# Altium footprint library Philips Footprints.PcbLib: 101 footprints (part 3 of 7)
Each footprint in its own frame and in the unit in brackets; x right, y up, seen from the top. Pads: shape width x height; smd on the part's side, far side on the other; paste and mask are expansions set on the pad; w line width, h text height; cw(c..) or ccw(c..) is an arc to the next point about the centre after c.
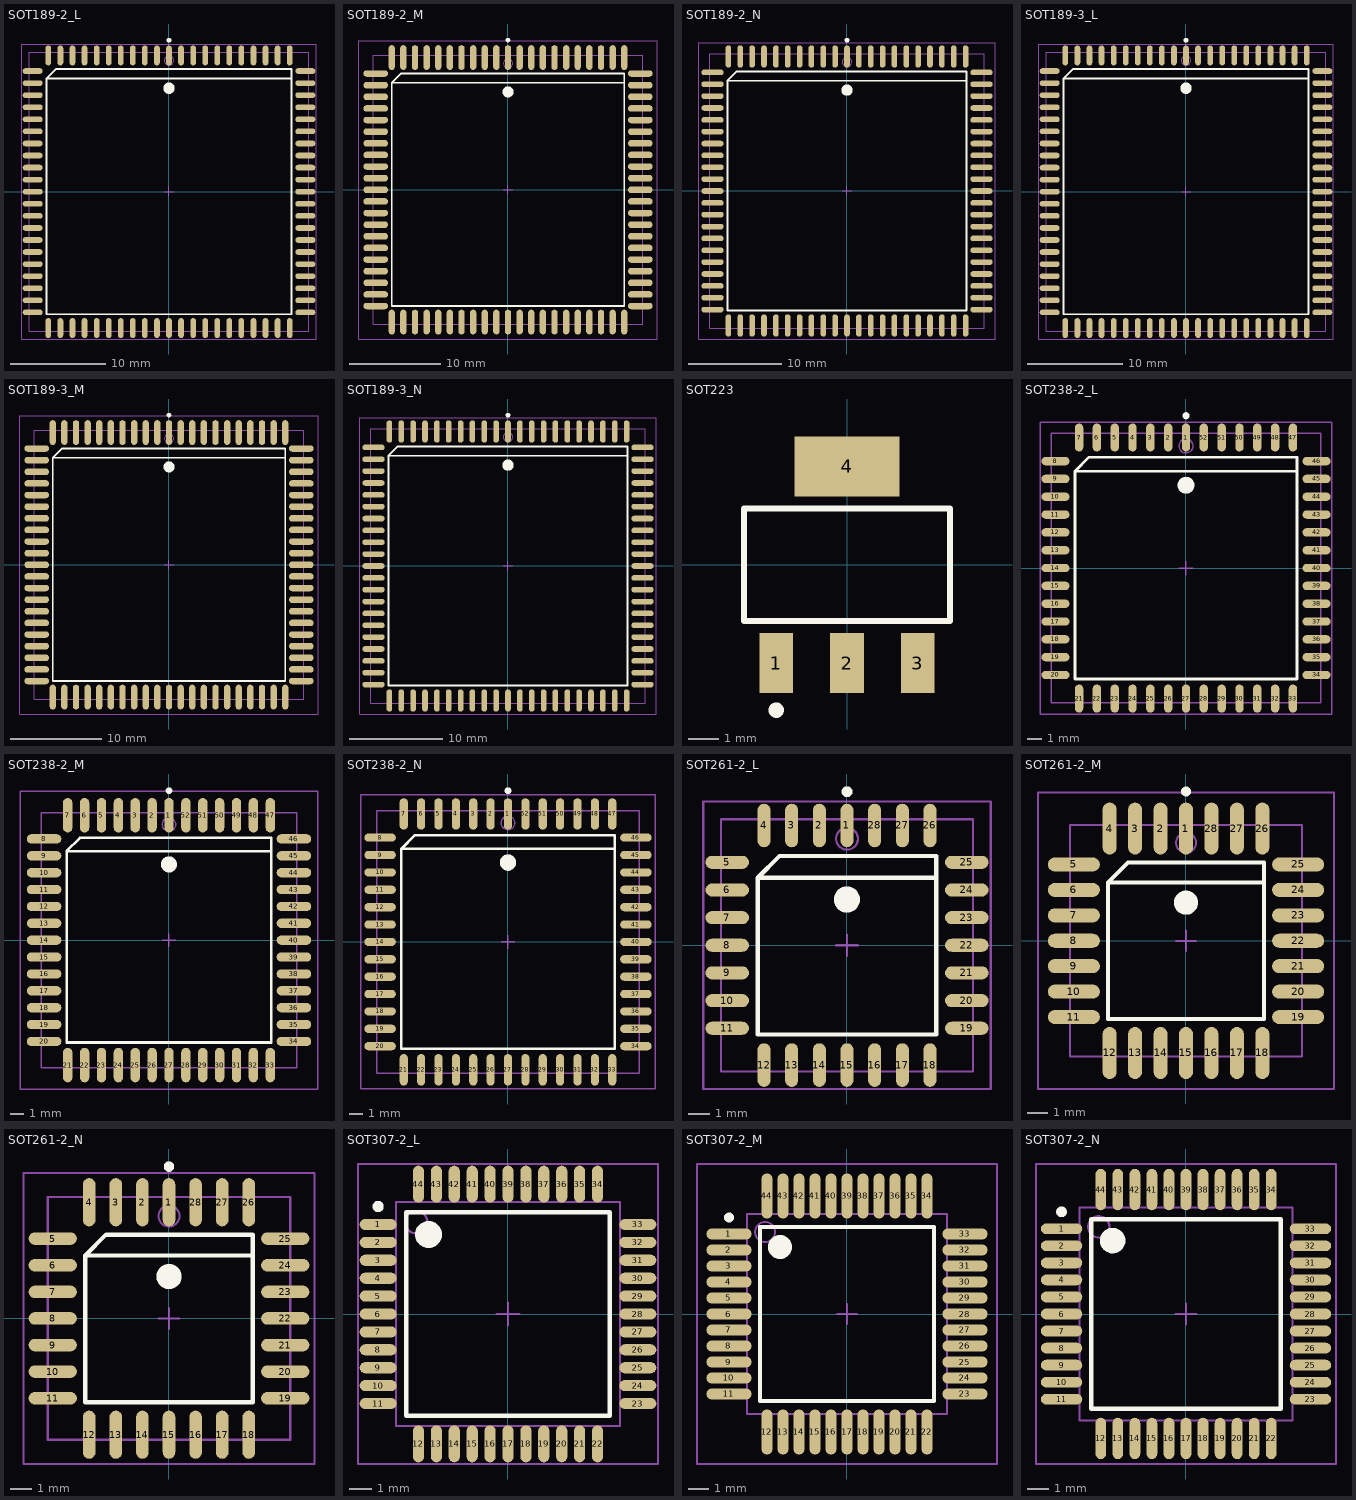
[diagram p2: the footprints below, top view; thin cyan lines are the x and y axes]

## SOT189-2_L [mm] "84-Pin Leaded Chip Carrier 1.27 mm Pitch, IPC High Density"
height 4.57
pads (84):
  oval 0.6x2.1 smd: 1(0,14.35) 2(-1.27,14.35) 3(-2.54,14.35) 4(-3.81,14.35) 5(-5.08,14.35) 6(-6.35,14.35) 7(-7.62,14.35) 8(-8.89,14.35) 9(-10.16,14.35) 10(-11.43,14.35) 11(-12.7,14.35) 33(-12.7,-14.35) 34(-11.43,-14.35) 35(-10.16,-14.35) 36(-8.89,-14.35) 37(-7.62,-14.35) 38(-6.35,-14.35) 39(-5.08,-14.35) 40(-3.81,-14.35) 41(-2.54,-14.35) 42(-1.27,-14.35) 43(0,-14.35) 44(1.27,-14.35) 45(2.54,-14.35) 46(3.81,-14.35) 47(5.08,-14.35) 48(6.35,-14.35) 49(7.62,-14.35) 50(8.89,-14.35) 51(10.16,-14.35) 52(11.43,-14.35) 53(12.7,-14.35) 75(12.7,14.35) 76(11.43,14.35) 77(10.16,14.35) 78(8.89,14.35) 79(7.62,14.35) 80(6.35,14.35) 81(5.08,14.35) 82(3.81,14.35) 83(2.54,14.35) 84(1.27,14.35)
  oval 2.1x0.6 smd: 12(-14.35,12.7) 13(-14.35,11.43) 14(-14.35,10.16) 15(-14.35,8.89) 16(-14.35,7.62) 17(-14.35,6.35) 18(-14.35,5.08) 19(-14.35,3.81) 20(-14.35,2.54) 21(-14.35,1.27) 22(-14.35,0) 23(-14.35,-1.27) 24(-14.35,-2.54) 25(-14.35,-3.81) 26(-14.35,-5.08) 27(-14.35,-6.35) 28(-14.35,-7.62) 29(-14.35,-8.89) 30(-14.35,-10.16) 31(-14.35,-11.43) 32(-14.35,-12.7) 54(14.35,-12.7) 55(14.35,-11.43) 56(14.35,-10.16) 57(14.35,-8.89) 58(14.35,-7.62) 59(14.35,-6.35) 60(14.35,-5.08) 61(14.35,-3.81) 62(14.35,-2.54) 63(14.35,-1.27) 64(14.35,0) 65(14.35,1.27) 66(14.35,2.54) 67(14.35,3.81) 68(14.35,5.08) 69(14.35,6.35) 70(14.35,7.62) 71(14.35,8.89) 72(14.35,10.16) 73(14.35,11.43) 74(14.35,12.7)
Top Overlay:
  circle w0.25: c0,15.95 r0.125
  circle w0.6: c0,10.9 r0.3
  lines w0.2: 12.9,11.9 -12.9,11.9 ; -12.9,11.9 -11.9,12.9 12.9,12.9 12.9,-12.9 -12.9,-12.9 -12.9,11.9
Mechanical 13:
  circle w0.1: c0,13.805 r0.5
  lines w0.1: -14.705,-14.705 -14.705,14.705 14.705,14.705 14.705,-14.705 -14.705,-14.705
Mechanical 15:
  lines w0.1: -0.5,0 0.5,0 ; 0,-0.5 0,0.5 ; -15.5,-15.5 -15.5,15.5 15.5,15.5 15.5,-15.5 -15.5,-15.5
3D body: height 4.57, standoff 0, extent -14.705,-14.705 14.705,14.705

## SOT189-2_M [mm] "84-Pin Leaded Chip Carrier 1.27 mm Pitch, IPC Low Density"
height 4.57
pads (84):
  oval 0.7x2.7 smd: 1(0,14.45) 2(-1.27,14.45) 3(-2.54,14.45) 4(-3.81,14.45) 5(-5.08,14.45) 6(-6.35,14.45) 7(-7.62,14.45) 8(-8.89,14.45) 9(-10.16,14.45) 10(-11.43,14.45) 11(-12.7,14.45) 33(-12.7,-14.45) 34(-11.43,-14.45) 35(-10.16,-14.45) 36(-8.89,-14.45) 37(-7.62,-14.45) 38(-6.35,-14.45) 39(-5.08,-14.45) 40(-3.81,-14.45) 41(-2.54,-14.45) 42(-1.27,-14.45) 43(0,-14.45) 44(1.27,-14.45) 45(2.54,-14.45) 46(3.81,-14.45) 47(5.08,-14.45) 48(6.35,-14.45) 49(7.62,-14.45) 50(8.89,-14.45) 51(10.16,-14.45) 52(11.43,-14.45) 53(12.7,-14.45) 75(12.7,14.45) 76(11.43,14.45) 77(10.16,14.45) 78(8.89,14.45) 79(7.62,14.45) 80(6.35,14.45) 81(5.08,14.45) 82(3.81,14.45) 83(2.54,14.45) 84(1.27,14.45)
  oval 2.7x0.7 smd: 12(-14.45,12.7) 13(-14.45,11.43) 14(-14.45,10.16) 15(-14.45,8.89) 16(-14.45,7.62) 17(-14.45,6.35) 18(-14.45,5.08) 19(-14.45,3.81) 20(-14.45,2.54) 21(-14.45,1.27) 22(-14.45,0) 23(-14.45,-1.27) 24(-14.45,-2.54) 25(-14.45,-3.81) 26(-14.45,-5.08) 27(-14.45,-6.35) 28(-14.45,-7.62) 29(-14.45,-8.89) 30(-14.45,-10.16) 31(-14.45,-11.43) 32(-14.45,-12.7) 54(14.45,-12.7) 55(14.45,-11.43) 56(14.45,-10.16) 57(14.45,-8.89) 58(14.45,-7.62) 59(14.45,-6.35) 60(14.45,-5.08) 61(14.45,-3.81) 62(14.45,-2.54) 63(14.45,-1.27) 64(14.45,0) 65(14.45,1.27) 66(14.45,2.54) 67(14.45,3.81) 68(14.45,5.08) 69(14.45,6.35) 70(14.45,7.62) 71(14.45,8.89) 72(14.45,10.16) 73(14.45,11.43) 74(14.45,12.7)
Top Overlay:
  circle w0.25: c0,16.35 r0.125
  circle w0.6: c0,10.7 r0.3
  lines w0.2: 12.7,11.7 -12.7,11.7 ; -12.7,11.7 -11.7,12.7 12.7,12.7 12.7,-12.7 -12.7,-12.7 -12.7,11.7
Mechanical 13:
  circle w0.1: c0,13.805 r0.5
  lines w0.1: -14.705,-14.705 -14.705,14.705 14.705,14.705 14.705,-14.705 -14.705,-14.705
Mechanical 15:
  lines w0.1: -0.5,0 0.5,0 ; 0,-0.5 0,0.5 ; -16.3,-16.3 -16.3,16.3 16.3,16.3 16.3,-16.3 -16.3,-16.3
3D body: height 4.57, standoff 0, extent -14.705,-14.705 14.705,14.705

## SOT189-2_N [mm] "84-Pin Leaded Chip Carrier 1.27 mm Pitch, IPC Medium Density"
height 4.57
pads (84):
  oval 0.6x2.4 smd: 1(0,14.4) 2(-1.27,14.4) 3(-2.54,14.4) 4(-3.81,14.4) 5(-5.08,14.4) 6(-6.35,14.4) 7(-7.62,14.4) 8(-8.89,14.4) 9(-10.16,14.4) 10(-11.43,14.4) 11(-12.7,14.4) 33(-12.7,-14.4) 34(-11.43,-14.4) 35(-10.16,-14.4) 36(-8.89,-14.4) 37(-7.62,-14.4) 38(-6.35,-14.4) 39(-5.08,-14.4) 40(-3.81,-14.4) 41(-2.54,-14.4) 42(-1.27,-14.4) 43(0,-14.4) 44(1.27,-14.4) 45(2.54,-14.4) 46(3.81,-14.4) 47(5.08,-14.4) 48(6.35,-14.4) 49(7.62,-14.4) 50(8.89,-14.4) 51(10.16,-14.4) 52(11.43,-14.4) 53(12.7,-14.4) 75(12.7,14.4) 76(11.43,14.4) 77(10.16,14.4) 78(8.89,14.4) 79(7.62,14.4) 80(6.35,14.4) 81(5.08,14.4) 82(3.81,14.4) 83(2.54,14.4) 84(1.27,14.4)
  oval 2.4x0.6 smd: 12(-14.4,12.7) 13(-14.4,11.43) 14(-14.4,10.16) 15(-14.4,8.89) 16(-14.4,7.62) 17(-14.4,6.35) 18(-14.4,5.08) 19(-14.4,3.81) 20(-14.4,2.54) 21(-14.4,1.27) 22(-14.4,0) 23(-14.4,-1.27) 24(-14.4,-2.54) 25(-14.4,-3.81) 26(-14.4,-5.08) 27(-14.4,-6.35) 28(-14.4,-7.62) 29(-14.4,-8.89) 30(-14.4,-10.16) 31(-14.4,-11.43) 32(-14.4,-12.7) 54(14.4,-12.7) 55(14.4,-11.43) 56(14.4,-10.16) 57(14.4,-8.89) 58(14.4,-7.62) 59(14.4,-6.35) 60(14.4,-5.08) 61(14.4,-3.81) 62(14.4,-2.54) 63(14.4,-1.27) 64(14.4,0) 65(14.4,1.27) 66(14.4,2.54) 67(14.4,3.81) 68(14.4,5.08) 69(14.4,6.35) 70(14.4,7.62) 71(14.4,8.89) 72(14.4,10.16) 73(14.4,11.43) 74(14.4,12.7)
Top Overlay:
  circle w0.25: c0,16.15 r0.125
  circle w0.6: c0,10.8 r0.3
  lines w0.2: 12.8,11.8 -12.8,11.8 ; -12.8,11.8 -11.8,12.8 12.8,12.8 12.8,-12.8 -12.8,-12.8 -12.8,11.8
Mechanical 13:
  circle w0.1: c0,13.805 r0.5
  lines w0.1: -14.705,-14.705 -14.705,14.705 14.705,14.705 14.705,-14.705 -14.705,-14.705
Mechanical 15:
  lines w0.1: -0.5,0 0.5,0 ; 0,-0.5 0,0.5 ; -15.85,-15.85 -15.85,15.85 15.85,15.85 15.85,-15.85 -15.85,-15.85
3D body: height 4.57, standoff 0, extent -14.705,-14.705 14.705,14.705

## SOT189-3_L [mm] "84-Pin Leaded Chip Carrier 1.27 mm Pitch, IPC High Density"
height 4.57
pads (84):
  oval 0.6x2.1 smd: 1(0,14.35) 2(-1.27,14.35) 3(-2.54,14.35) 4(-3.81,14.35) 5(-5.08,14.35) 6(-6.35,14.35) 7(-7.62,14.35) 8(-8.89,14.35) 9(-10.16,14.35) 10(-11.43,14.35) 11(-12.7,14.35) 33(-12.7,-14.35) 34(-11.43,-14.35) 35(-10.16,-14.35) 36(-8.89,-14.35) 37(-7.62,-14.35) 38(-6.35,-14.35) 39(-5.08,-14.35) 40(-3.81,-14.35) 41(-2.54,-14.35) 42(-1.27,-14.35) 43(0,-14.35) 44(1.27,-14.35) 45(2.54,-14.35) 46(3.81,-14.35) 47(5.08,-14.35) 48(6.35,-14.35) 49(7.62,-14.35) 50(8.89,-14.35) 51(10.16,-14.35) 52(11.43,-14.35) 53(12.7,-14.35) 75(12.7,14.35) 76(11.43,14.35) 77(10.16,14.35) 78(8.89,14.35) 79(7.62,14.35) 80(6.35,14.35) 81(5.08,14.35) 82(3.81,14.35) 83(2.54,14.35) 84(1.27,14.35)
  oval 2.1x0.6 smd: 12(-14.35,12.7) 13(-14.35,11.43) 14(-14.35,10.16) 15(-14.35,8.89) 16(-14.35,7.62) 17(-14.35,6.35) 18(-14.35,5.08) 19(-14.35,3.81) 20(-14.35,2.54) 21(-14.35,1.27) 22(-14.35,0) 23(-14.35,-1.27) 24(-14.35,-2.54) 25(-14.35,-3.81) 26(-14.35,-5.08) 27(-14.35,-6.35) 28(-14.35,-7.62) 29(-14.35,-8.89) 30(-14.35,-10.16) 31(-14.35,-11.43) 32(-14.35,-12.7) 54(14.35,-12.7) 55(14.35,-11.43) 56(14.35,-10.16) 57(14.35,-8.89) 58(14.35,-7.62) 59(14.35,-6.35) 60(14.35,-5.08) 61(14.35,-3.81) 62(14.35,-2.54) 63(14.35,-1.27) 64(14.35,0) 65(14.35,1.27) 66(14.35,2.54) 67(14.35,3.81) 68(14.35,5.08) 69(14.35,6.35) 70(14.35,7.62) 71(14.35,8.89) 72(14.35,10.16) 73(14.35,11.43) 74(14.35,12.7)
Top Overlay:
  circle w0.25: c0,15.95 r0.125
  circle w0.6: c0,10.9 r0.3
  lines w0.2: 12.9,11.9 -12.9,11.9 ; -12.9,11.9 -11.9,12.9 12.9,12.9 12.9,-12.9 -12.9,-12.9 -12.9,11.9
Mechanical 13:
  circle w0.1: c0,13.805 r0.5
  lines w0.1: -14.705,-14.705 -14.705,14.705 14.705,14.705 14.705,-14.705 -14.705,-14.705
Mechanical 15:
  lines w0.1: -0.5,0 0.5,0 ; 0,-0.5 0,0.5 ; -15.5,-15.5 -15.5,15.5 15.5,15.5 15.5,-15.5 -15.5,-15.5
3D body: height 4.57, standoff 0, extent -14.705,-14.705 14.705,14.705

## SOT189-3_M [mm] "84-Pin Leaded Chip Carrier 1.27 mm Pitch, IPC Low Density"
height 4.57
pads (84):
  oval 0.7x2.7 smd: 1(0,14.45) 2(-1.27,14.45) 3(-2.54,14.45) 4(-3.81,14.45) 5(-5.08,14.45) 6(-6.35,14.45) 7(-7.62,14.45) 8(-8.89,14.45) 9(-10.16,14.45) 10(-11.43,14.45) 11(-12.7,14.45) 33(-12.7,-14.45) 34(-11.43,-14.45) 35(-10.16,-14.45) 36(-8.89,-14.45) 37(-7.62,-14.45) 38(-6.35,-14.45) 39(-5.08,-14.45) 40(-3.81,-14.45) 41(-2.54,-14.45) 42(-1.27,-14.45) 43(0,-14.45) 44(1.27,-14.45) 45(2.54,-14.45) 46(3.81,-14.45) 47(5.08,-14.45) 48(6.35,-14.45) 49(7.62,-14.45) 50(8.89,-14.45) 51(10.16,-14.45) 52(11.43,-14.45) 53(12.7,-14.45) 75(12.7,14.45) 76(11.43,14.45) 77(10.16,14.45) 78(8.89,14.45) 79(7.62,14.45) 80(6.35,14.45) 81(5.08,14.45) 82(3.81,14.45) 83(2.54,14.45) 84(1.27,14.45)
  oval 2.7x0.7 smd: 12(-14.45,12.7) 13(-14.45,11.43) 14(-14.45,10.16) 15(-14.45,8.89) 16(-14.45,7.62) 17(-14.45,6.35) 18(-14.45,5.08) 19(-14.45,3.81) 20(-14.45,2.54) 21(-14.45,1.27) 22(-14.45,0) 23(-14.45,-1.27) 24(-14.45,-2.54) 25(-14.45,-3.81) 26(-14.45,-5.08) 27(-14.45,-6.35) 28(-14.45,-7.62) 29(-14.45,-8.89) 30(-14.45,-10.16) 31(-14.45,-11.43) 32(-14.45,-12.7) 54(14.45,-12.7) 55(14.45,-11.43) 56(14.45,-10.16) 57(14.45,-8.89) 58(14.45,-7.62) 59(14.45,-6.35) 60(14.45,-5.08) 61(14.45,-3.81) 62(14.45,-2.54) 63(14.45,-1.27) 64(14.45,0) 65(14.45,1.27) 66(14.45,2.54) 67(14.45,3.81) 68(14.45,5.08) 69(14.45,6.35) 70(14.45,7.62) 71(14.45,8.89) 72(14.45,10.16) 73(14.45,11.43) 74(14.45,12.7)
Top Overlay:
  circle w0.25: c0,16.35 r0.125
  circle w0.6: c0,10.7 r0.3
  lines w0.2: 12.7,11.7 -12.7,11.7 ; -12.7,11.7 -11.7,12.7 12.7,12.7 12.7,-12.7 -12.7,-12.7 -12.7,11.7
Mechanical 13:
  circle w0.1: c0,13.805 r0.5
  lines w0.1: -14.705,-14.705 -14.705,14.705 14.705,14.705 14.705,-14.705 -14.705,-14.705
Mechanical 15:
  lines w0.1: -0.5,0 0.5,0 ; 0,-0.5 0,0.5 ; -16.3,-16.3 -16.3,16.3 16.3,16.3 16.3,-16.3 -16.3,-16.3
3D body: height 4.57, standoff 0, extent -14.705,-14.705 14.705,14.705

## SOT189-3_N [mm] "84-Pin Leaded Chip Carrier 1.27 mm Pitch, IPC Medium Density"
height 4.57
pads (84):
  oval 0.6x2.4 smd: 1(0,14.4) 2(-1.27,14.4) 3(-2.54,14.4) 4(-3.81,14.4) 5(-5.08,14.4) 6(-6.35,14.4) 7(-7.62,14.4) 8(-8.89,14.4) 9(-10.16,14.4) 10(-11.43,14.4) 11(-12.7,14.4) 33(-12.7,-14.4) 34(-11.43,-14.4) 35(-10.16,-14.4) 36(-8.89,-14.4) 37(-7.62,-14.4) 38(-6.35,-14.4) 39(-5.08,-14.4) 40(-3.81,-14.4) 41(-2.54,-14.4) 42(-1.27,-14.4) 43(0,-14.4) 44(1.27,-14.4) 45(2.54,-14.4) 46(3.81,-14.4) 47(5.08,-14.4) 48(6.35,-14.4) 49(7.62,-14.4) 50(8.89,-14.4) 51(10.16,-14.4) 52(11.43,-14.4) 53(12.7,-14.4) 75(12.7,14.4) 76(11.43,14.4) 77(10.16,14.4) 78(8.89,14.4) 79(7.62,14.4) 80(6.35,14.4) 81(5.08,14.4) 82(3.81,14.4) 83(2.54,14.4) 84(1.27,14.4)
  oval 2.4x0.6 smd: 12(-14.4,12.7) 13(-14.4,11.43) 14(-14.4,10.16) 15(-14.4,8.89) 16(-14.4,7.62) 17(-14.4,6.35) 18(-14.4,5.08) 19(-14.4,3.81) 20(-14.4,2.54) 21(-14.4,1.27) 22(-14.4,0) 23(-14.4,-1.27) 24(-14.4,-2.54) 25(-14.4,-3.81) 26(-14.4,-5.08) 27(-14.4,-6.35) 28(-14.4,-7.62) 29(-14.4,-8.89) 30(-14.4,-10.16) 31(-14.4,-11.43) 32(-14.4,-12.7) 54(14.4,-12.7) 55(14.4,-11.43) 56(14.4,-10.16) 57(14.4,-8.89) 58(14.4,-7.62) 59(14.4,-6.35) 60(14.4,-5.08) 61(14.4,-3.81) 62(14.4,-2.54) 63(14.4,-1.27) 64(14.4,0) 65(14.4,1.27) 66(14.4,2.54) 67(14.4,3.81) 68(14.4,5.08) 69(14.4,6.35) 70(14.4,7.62) 71(14.4,8.89) 72(14.4,10.16) 73(14.4,11.43) 74(14.4,12.7)
Top Overlay:
  circle w0.25: c0,16.15 r0.125
  circle w0.6: c0,10.8 r0.3
  lines w0.2: 12.8,11.8 -12.8,11.8 ; -12.8,11.8 -11.8,12.8 12.8,12.8 12.8,-12.8 -12.8,-12.8 -12.8,11.8
Mechanical 13:
  circle w0.1: c0,13.805 r0.5
  lines w0.1: -14.705,-14.705 -14.705,14.705 14.705,14.705 14.705,-14.705 -14.705,-14.705
Mechanical 15:
  lines w0.1: -0.5,0 0.5,0 ; 0,-0.5 0,0.5 ; -15.85,-15.85 -15.85,15.85 15.85,15.85 15.85,-15.85 -15.85,-15.85
3D body: height 4.57, standoff 0, extent -14.705,-14.705 14.705,14.705

## SOT223 [mm] "SOT-223/SC-73; 4 Leads; Body 6.7 x 7.3 mm, inc. leads (LxW max)"
height 1.8
pads (4):
  rect 1.1x1.95 smd: 1(-2.3,-3.2) 2(0,-3.2) 3(2.3,-3.2)
  rect 3.4x1.95 smd: 4(0,3.2)
Top Overlay:
  circle w0.25: c-2.3,-4.725 r0.125
  lines w0.2: -3.35,-1.825 3.35,-1.825 3.35,1.825 -3.35,1.825 -3.35,-1.825

## SOT238-2_L [mm] "52-Pin Leaded Chip Carrier 1.27 mm Pitch, IPC High Density"
height 4.57
pads (52):
  oval 0.6x2 smd: 1(0,9.3) 2(-1.27,9.3) 3(-2.54,9.3) 4(-3.81,9.3) 5(-5.08,9.3) 6(-6.35,9.3) 7(-7.62,9.3) 21(-7.62,-9.3) 22(-6.35,-9.3) 23(-5.08,-9.3) 24(-3.81,-9.3) 25(-2.54,-9.3) 26(-1.27,-9.3) 27(0,-9.3) 28(1.27,-9.3) 29(2.54,-9.3) 30(3.81,-9.3) 31(5.08,-9.3) 32(6.35,-9.3) 33(7.62,-9.3) 47(7.62,9.3) 48(6.35,9.3) 49(5.08,9.3) 50(3.81,9.3) 51(2.54,9.3) 52(1.27,9.3)
  oval 2x0.6 smd: 8(-9.3,7.62) 9(-9.3,6.35) 10(-9.3,5.08) 11(-9.3,3.81) 12(-9.3,2.54) 13(-9.3,1.27) 14(-9.3,0) 15(-9.3,-1.27) 16(-9.3,-2.54) 17(-9.3,-3.81) 18(-9.3,-5.08) 19(-9.3,-6.35) 20(-9.3,-7.62) 34(9.3,-7.62) 35(9.3,-6.35) 36(9.3,-5.08) 37(9.3,-3.81) 38(9.3,-2.54) 39(9.3,-1.27) 40(9.3,0) 41(9.3,1.27) 42(9.3,2.54) 43(9.3,3.81) 44(9.3,5.08) 45(9.3,6.35) 46(9.3,7.62)
Top Overlay:
  circle w0.25: c0,10.85 r0.125
  circle w0.6: c0,5.9 r0.3
  lines w0.2: 7.9,6.9 -7.9,6.9 ; -7.9,6.9 -6.9,7.9 7.9,7.9 7.9,-7.9 -7.9,-7.9 -7.9,6.9
Mechanical 13:
  circle w0.1: c0,8.7 r0.5
  lines w0.1: -9.6,-9.6 -9.6,9.6 9.6,9.6 9.6,-9.6 -9.6,-9.6
Mechanical 15:
  lines w0.1: -0.5,0 0.5,0 ; 0,-0.5 0,0.5 ; -10.4,-10.4 -10.4,10.4 10.4,10.4 10.4,-10.4 -10.4,-10.4
3D body: height 4.57, standoff 0, extent -9.6,-9.6 9.6,9.6

## SOT238-2_M [mm] "52-Pin Leaded Chip Carrier 1.27 mm Pitch, IPC Low Density"
height 4.57
pads (52):
  oval 0.7x2.6 smd: 1(0,9.4) 2(-1.27,9.4) 3(-2.54,9.4) 4(-3.81,9.4) 5(-5.08,9.4) 6(-6.35,9.4) 7(-7.62,9.4) 21(-7.62,-9.4) 22(-6.35,-9.4) 23(-5.08,-9.4) 24(-3.81,-9.4) 25(-2.54,-9.4) 26(-1.27,-9.4) 27(0,-9.4) 28(1.27,-9.4) 29(2.54,-9.4) 30(3.81,-9.4) 31(5.08,-9.4) 32(6.35,-9.4) 33(7.62,-9.4) 47(7.62,9.4) 48(6.35,9.4) 49(5.08,9.4) 50(3.81,9.4) 51(2.54,9.4) 52(1.27,9.4)
  oval 2.6x0.7 smd: 8(-9.4,7.62) 9(-9.4,6.35) 10(-9.4,5.08) 11(-9.4,3.81) 12(-9.4,2.54) 13(-9.4,1.27) 14(-9.4,0) 15(-9.4,-1.27) 16(-9.4,-2.54) 17(-9.4,-3.81) 18(-9.4,-5.08) 19(-9.4,-6.35) 20(-9.4,-7.62) 34(9.4,-7.62) 35(9.4,-6.35) 36(9.4,-5.08) 37(9.4,-3.81) 38(9.4,-2.54) 39(9.4,-1.27) 40(9.4,0) 41(9.4,1.27) 42(9.4,2.54) 43(9.4,3.81) 44(9.4,5.08) 45(9.4,6.35) 46(9.4,7.62)
Top Overlay:
  circle w0.25: c0,11.25 r0.125
  circle w0.6: c0,5.7 r0.3
  lines w0.2: 7.7,6.7 -7.7,6.7 ; -7.7,6.7 -6.7,7.7 7.7,7.7 7.7,-7.7 -7.7,-7.7 -7.7,6.7
Mechanical 13:
  circle w0.1: c0,8.7 r0.5
  lines w0.1: -9.6,-9.6 -9.6,9.6 9.6,9.6 9.6,-9.6 -9.6,-9.6
Mechanical 15:
  lines w0.1: -0.5,0 0.5,0 ; 0,-0.5 0,0.5 ; -11.2,-11.2 -11.2,11.2 11.2,11.2 11.2,-11.2 -11.2,-11.2
3D body: height 4.57, standoff 0, extent -9.6,-9.6 9.6,9.6

## SOT238-2_N [mm] "52-Pin Leaded Chip Carrier 1.27 mm Pitch, IPC Medium Density"
height 4.57
pads (52):
  oval 0.6x2.3 smd: 1(0,9.35) 2(-1.27,9.35) 3(-2.54,9.35) 4(-3.81,9.35) 5(-5.08,9.35) 6(-6.35,9.35) 7(-7.62,9.35) 21(-7.62,-9.35) 22(-6.35,-9.35) 23(-5.08,-9.35) 24(-3.81,-9.35) 25(-2.54,-9.35) 26(-1.27,-9.35) 27(0,-9.35) 28(1.27,-9.35) 29(2.54,-9.35) 30(3.81,-9.35) 31(5.08,-9.35) 32(6.35,-9.35) 33(7.62,-9.35) 47(7.62,9.35) 48(6.35,9.35) 49(5.08,9.35) 50(3.81,9.35) 51(2.54,9.35) 52(1.27,9.35)
  oval 2.3x0.6 smd: 8(-9.35,7.62) 9(-9.35,6.35) 10(-9.35,5.08) 11(-9.35,3.81) 12(-9.35,2.54) 13(-9.35,1.27) 14(-9.35,0) 15(-9.35,-1.27) 16(-9.35,-2.54) 17(-9.35,-3.81) 18(-9.35,-5.08) 19(-9.35,-6.35) 20(-9.35,-7.62) 34(9.35,-7.62) 35(9.35,-6.35) 36(9.35,-5.08) 37(9.35,-3.81) 38(9.35,-2.54) 39(9.35,-1.27) 40(9.35,0) 41(9.35,1.27) 42(9.35,2.54) 43(9.35,3.81) 44(9.35,5.08) 45(9.35,6.35) 46(9.35,7.62)
Top Overlay:
  circle w0.25: c0,11.05 r0.125
  circle w0.6: c0,5.8 r0.3
  lines w0.2: 7.8,6.8 -7.8,6.8 ; -7.8,6.8 -6.8,7.8 7.8,7.8 7.8,-7.8 -7.8,-7.8 -7.8,6.8
Mechanical 13:
  circle w0.1: c0,8.7 r0.5
  lines w0.1: -9.6,-9.6 -9.6,9.6 9.6,9.6 9.6,-9.6 -9.6,-9.6
Mechanical 15:
  lines w0.1: -0.5,0 0.5,0 ; 0,-0.5 0,0.5 ; -10.75,-10.75 -10.75,10.75 10.75,10.75 10.75,-10.75 -10.75,-10.75
3D body: height 4.57, standoff 0, extent -9.6,-9.6 9.6,9.6

## SOT261-2_L [mm] "28-Pin Leaded Chip Carrier 1.27 mm Pitch, IPC High Density"
height 4.57
pads (28):
  oval 0.6x2 smd: 1(0,5.5) 2(-1.27,5.5) 3(-2.54,5.5) 4(-3.81,5.5) 12(-3.81,-5.5) 13(-2.54,-5.5) 14(-1.27,-5.5) 15(0,-5.5) 16(1.27,-5.5) 17(2.54,-5.5) 18(3.81,-5.5) 26(3.81,5.5) 27(2.54,5.5) 28(1.27,5.5)
  oval 2x0.6 smd: 5(-5.5,3.81) 6(-5.5,2.54) 7(-5.5,1.27) 8(-5.5,0) 9(-5.5,-1.27) 10(-5.5,-2.54) 11(-5.5,-3.81) 19(5.5,-3.81) 20(5.5,-2.54) 21(5.5,-1.27) 22(5.5,0) 23(5.5,1.27) 24(5.5,2.54) 25(5.5,3.81)
Top Overlay:
  circle w0.25: c0,7.05 r0.125
  circle w0.6: c0,2.1 r0.3
  lines w0.2: 4.1,3.1 -4.1,3.1 ; -4.1,3.1 -3.1,4.1 4.1,4.1 4.1,-4.1 -4.1,-4.1 -4.1,3.1
Mechanical 13:
  circle w0.1: c0,4.89 r0.5
  lines w0.1: -5.79,-5.79 -5.79,5.79 5.79,5.79 5.79,-5.79 -5.79,-5.79
Mechanical 15:
  lines w0.1: -0.5,0 0.5,0 ; 0,-0.5 0,0.5 ; -6.6,-6.6 -6.6,6.6 6.6,6.6 6.6,-6.6 -6.6,-6.6
3D body: height 4.57, standoff 0, extent -5.79,-5.79 5.79,5.79

## SOT261-2_M [mm] "28-Pin Leaded Chip Carrier 1.27 mm Pitch, IPC Low Density"
height 4.57
pads (28):
  oval 0.7x2.6 smd: 1(0,5.6) 2(-1.27,5.6) 3(-2.54,5.6) 4(-3.81,5.6) 12(-3.81,-5.6) 13(-2.54,-5.6) 14(-1.27,-5.6) 15(0,-5.6) 16(1.27,-5.6) 17(2.54,-5.6) 18(3.81,-5.6) 26(3.81,5.6) 27(2.54,5.6) 28(1.27,5.6)
  oval 2.6x0.7 smd: 5(-5.6,3.81) 6(-5.6,2.54) 7(-5.6,1.27) 8(-5.6,0) 9(-5.6,-1.27) 10(-5.6,-2.54) 11(-5.6,-3.81) 19(5.6,-3.81) 20(5.6,-2.54) 21(5.6,-1.27) 22(5.6,0) 23(5.6,1.27) 24(5.6,2.54) 25(5.6,3.81)
Top Overlay:
  circle w0.25: c0,7.45 r0.125
  circle w0.6: c0,1.9 r0.3
  lines w0.2: 3.9,2.9 -3.9,2.9 ; -3.9,2.9 -2.9,3.9 3.9,3.9 3.9,-3.9 -3.9,-3.9 -3.9,2.9
Mechanical 13:
  circle w0.1: c0,4.89 r0.5
  lines w0.1: -5.79,-5.79 -5.79,5.79 5.79,5.79 5.79,-5.79 -5.79,-5.79
Mechanical 15:
  lines w0.1: -0.5,0 0.5,0 ; 0,-0.5 0,0.5 ; -7.4,-7.4 -7.4,7.4 7.4,7.4 7.4,-7.4 -7.4,-7.4
3D body: height 4.57, standoff 0, extent -5.79,-5.79 5.79,5.79

## SOT261-2_N [mm] "28-Pin Leaded Chip Carrier 1.27 mm Pitch, IPC Medium Density"
height 4.57
pads (28):
  oval 0.6x2.3 smd: 1(0,5.55) 2(-1.27,5.55) 3(-2.54,5.55) 4(-3.81,5.55) 12(-3.81,-5.55) 13(-2.54,-5.55) 14(-1.27,-5.55) 15(0,-5.55) 16(1.27,-5.55) 17(2.54,-5.55) 18(3.81,-5.55) 26(3.81,5.55) 27(2.54,5.55) 28(1.27,5.55)
  oval 2.3x0.6 smd: 5(-5.55,3.81) 6(-5.55,2.54) 7(-5.55,1.27) 8(-5.55,0) 9(-5.55,-1.27) 10(-5.55,-2.54) 11(-5.55,-3.81) 19(5.55,-3.81) 20(5.55,-2.54) 21(5.55,-1.27) 22(5.55,0) 23(5.55,1.27) 24(5.55,2.54) 25(5.55,3.81)
Top Overlay:
  circle w0.25: c0,7.25 r0.125
  circle w0.6: c0,2 r0.3
  lines w0.2: 4,3 -4,3 ; -4,3 -3,4 4,4 4,-4 -4,-4 -4,3
Mechanical 13:
  circle w0.1: c0,4.89 r0.5
  lines w0.1: -5.79,-5.79 -5.79,5.79 5.79,5.79 5.79,-5.79 -5.79,-5.79
Mechanical 15:
  lines w0.1: -0.5,0 0.5,0 ; 0,-0.5 0,0.5 ; -6.95,-6.95 -6.95,6.95 6.95,6.95 6.95,-6.95 -6.95,-6.95
3D body: height 4.57, standoff 0, extent -5.79,-5.79 5.79,5.79

## SOT307-2_L [mm] "44-Pin Quad Flat Pack 0.8 mm Pitch, IPC High Density"
height 2.1
pads (44):
  oval 1.65x0.5 smd: 1(-5.8,4) 2(-5.8,3.2) 3(-5.8,2.4) 4(-5.8,1.6) 5(-5.8,0.8) 6(-5.8,0) 7(-5.8,-0.8) 8(-5.8,-1.6) 9(-5.8,-2.4) 10(-5.8,-3.2) 11(-5.8,-4) 23(5.8,-4) 24(5.8,-3.2) 25(5.8,-2.4) 26(5.8,-1.6) 27(5.8,-0.8) 28(5.8,0) 29(5.8,0.8) 30(5.8,1.6) 31(5.8,2.4) 32(5.8,3.2) 33(5.8,4)
  oval 0.5x1.65 smd: 12(-4,-5.8) 13(-3.2,-5.8) 14(-2.4,-5.8) 15(-1.6,-5.8) 16(-0.8,-5.8) 17(0,-5.8) 18(0.8,-5.8) 19(1.6,-5.8) 20(2.4,-5.8) 21(3.2,-5.8) 22(4,-5.8) 34(4,5.8) 35(3.2,5.8) 36(2.4,5.8) 37(1.6,5.8) 38(0.8,5.8) 39(0,5.8) 40(-0.8,5.8) 41(-1.6,5.8) 42(-2.4,5.8) 43(-3.2,5.8) 44(-4,5.8)
Top Overlay:
  circle w0.25: c-5.8,4.8 r0.125
  circle w0.6: c-3.55,3.55 r0.3
  lines w0.2: -4.55,-4.55 -4.55,4.55 4.55,4.55 4.55,-4.55 -4.55,-4.55
Mechanical 13:
  circle w0.1: c-4.1,4.1 r0.5
  lines w0.1: -5,-5 -5,5 5,5 5,-5 -5,-5
Mechanical 15:
  lines w0.1: -0.5,0 0.5,0 ; 0,-0.5 0,0.5 ; -6.7,-6.7 -6.7,6.7 6.7,6.7 6.7,-6.7 -6.7,-6.7
3D body: height 2.1, standoff 0, extent -5,-5 5,5

## SOT307-2_M [mm] "44-Pin Quad Flat Pack 0.8 mm Pitch, IPC Low Density"
height 2.1
pads (44):
  oval 2.25x0.55 smd: 1(-5.9,4) 2(-5.9,3.2) 3(-5.9,2.4) 4(-5.9,1.6) 5(-5.9,0.8) 6(-5.9,0) 7(-5.9,-0.8) 8(-5.9,-1.6) 9(-5.9,-2.4) 10(-5.9,-3.2) 11(-5.9,-4) 23(5.9,-4) 24(5.9,-3.2) 25(5.9,-2.4) 26(5.9,-1.6) 27(5.9,-0.8) 28(5.9,0) 29(5.9,0.8) 30(5.9,1.6) 31(5.9,2.4) 32(5.9,3.2) 33(5.9,4)
  oval 0.55x2.25 smd: 12(-4,-5.9) 13(-3.2,-5.9) 14(-2.4,-5.9) 15(-1.6,-5.9) 16(-0.8,-5.9) 17(0,-5.9) 18(0.8,-5.9) 19(1.6,-5.9) 20(2.4,-5.9) 21(3.2,-5.9) 22(4,-5.9) 34(4,5.9) 35(3.2,5.9) 36(2.4,5.9) 37(1.6,5.9) 38(0.8,5.9) 39(0,5.9) 40(-0.8,5.9) 41(-1.6,5.9) 42(-2.4,5.9) 43(-3.2,5.9) 44(-4,5.9)
Top Overlay:
  circle w0.25: c-5.9,4.825 r0.125
  circle w0.6: c-3.35,3.35 r0.3
  lines w0.2: -4.35,-4.35 -4.35,4.35 4.35,4.35 4.35,-4.35 -4.35,-4.35
Mechanical 13:
  circle w0.1: c-4.1,4.1 r0.5
  lines w0.1: -5,-5 -5,5 5,5 5,-5 -5,-5
Mechanical 15:
  lines w0.1: -0.5,0 0.5,0 ; 0,-0.5 0,0.5 ; -7.5,-7.5 -7.5,7.5 7.5,7.5 7.5,-7.5 -7.5,-7.5
3D body: height 2.1, standoff 0, extent -5,-5 5,5

## SOT307-2_N [mm] "44-Pin Quad Flat Pack 0.8 mm Pitch, IPC Medium Density"
height 2.1
pads (44):
  oval 1.95x0.5 smd: 1(-5.85,4) 2(-5.85,3.2) 3(-5.85,2.4) 4(-5.85,1.6) 5(-5.85,0.8) 6(-5.85,0) 7(-5.85,-0.8) 8(-5.85,-1.6) 9(-5.85,-2.4) 10(-5.85,-3.2) 11(-5.85,-4) 23(5.85,-4) 24(5.85,-3.2) 25(5.85,-2.4) 26(5.85,-1.6) 27(5.85,-0.8) 28(5.85,0) 29(5.85,0.8) 30(5.85,1.6) 31(5.85,2.4) 32(5.85,3.2) 33(5.85,4)
  oval 0.5x1.95 smd: 12(-4,-5.85) 13(-3.2,-5.85) 14(-2.4,-5.85) 15(-1.6,-5.85) 16(-0.8,-5.85) 17(0,-5.85) 18(0.8,-5.85) 19(1.6,-5.85) 20(2.4,-5.85) 21(3.2,-5.85) 22(4,-5.85) 34(4,5.85) 35(3.2,5.85) 36(2.4,5.85) 37(1.6,5.85) 38(0.8,5.85) 39(0,5.85) 40(-0.8,5.85) 41(-1.6,5.85) 42(-2.4,5.85) 43(-3.2,5.85) 44(-4,5.85)
Top Overlay:
  circle w0.25: c-5.85,4.8 r0.125
  circle w0.6: c-3.45,3.45 r0.3
  lines w0.2: -4.45,-4.45 -4.45,4.45 4.45,4.45 4.45,-4.45 -4.45,-4.45
Mechanical 13:
  circle w0.1: c-4.1,4.1 r0.5
  lines w0.1: -5,-5 -5,5 5,5 5,-5 -5,-5
Mechanical 15:
  lines w0.1: -0.5,0 0.5,0 ; 0,-0.5 0,0.5 ; -7.05,-7.05 -7.05,7.05 7.05,7.05 7.05,-7.05 -7.05,-7.05
3D body: height 2.1, standoff 0, extent -5,-5 5,5